# EAGLE library part LAN9118 (library IC)
SMSC LAN9118 High Performance Single-Chip 10/100 Non-PCI Etherntet Controller
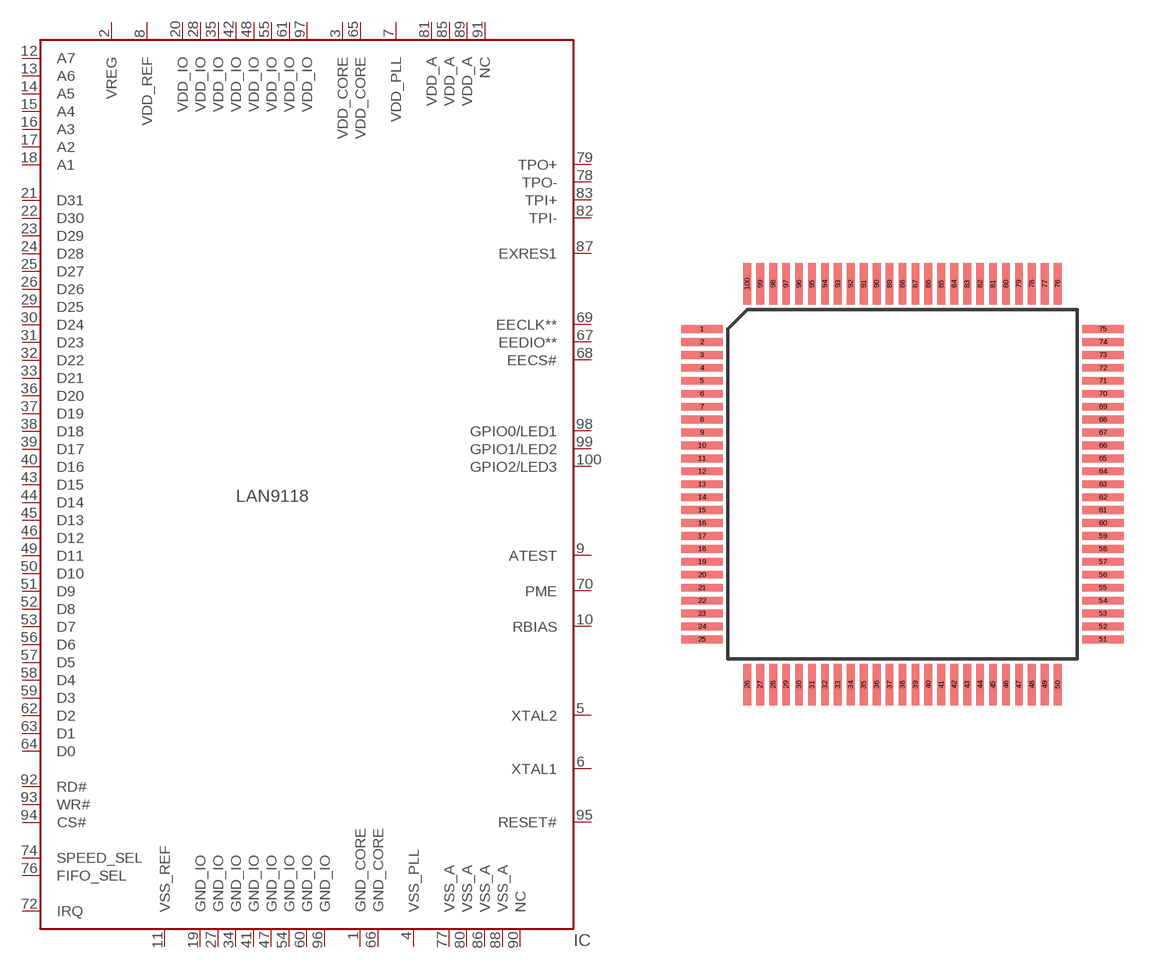
[diagram p94: symbol with the pads of TQFP100; footprint TQFP100]

Designator prefix IC

## LAN9118  [TQFP100]
1  GND_CORE  pwr
2  VREG  pwr
3  VDD_CORE  pwr
4  VSS_PLL  pwr
5  XTAL2
6  XTAL1
7  VDD_PLL  pwr
8  VDD_REF  pwr
9  ATEST
10  RBIAS
11  VSS_REF  pwr
12  A7
13  A6
14  A5
15  A4
16  A3
17  A2
18  A1
19  GND_IO  pwr
20  VDD_IO  pwr
21  D31
22  D30
23  D29
24  D28
25  D27
26  D26
27  GND_IO  pwr
28  VDD_IO  pwr
29  D25
30  D24
31  D23
32  D22
33  D21
34  GND_IO  pwr
35  VDD_IO  pwr
36  D20
37  D19
38  D18
39  D17
40  D16
41  GND_IO  pwr
42  VDD_IO  pwr
43  D15
44  D14
45  D13
46  D12
47  GND_IO  pwr
48  VDD_IO  pwr
49  D11
50  D10
51  D9
52  D8
53  D7
54  GND_IO  pwr
55  VDD_IO  pwr
56  D6
57  D5
58  D4
59  D3
60  GND_IO  pwr
61  VDD_IO  pwr
62  D2
63  D1
64  D0
65  VDD_CORE  pwr
66  GND_CORE  pwr
67  EEDIO**
68  EECS#
69  EECLK**
70  PME
72  IRQ
74  SPEED_SEL
76  FIFO_SEL
77  VSS_A  pwr
78  TPO-
79  TPO+
80  VSS_A  pwr
81  VDD_A  pwr
82  TPI-
83  TPI+
85  VDD_A  pwr
86  VSS_A  pwr
87  EXRES1
88  VSS_A  pwr
89  VDD_A  pwr
90  NC
91  NC
92  RD#
93  WR#
94  CS#
95  RESET#
96  GND_IO  pwr
97  VDD_IO  pwr
98  GPIO0/LED1
99  GPIO1/LED2
100  GPIO2/LED3

## Footprint TQFP100 (pad centres in mm)
TQFP 100 pin, 0.5mm pitch, 25 x 25 square
smd 1.6 x 0.3: 1 -7.75,6; 2 -7.75,5.5; 3 -7.75,5; 4 -7.75,4.5; 5 -7.75,4; 6 -7.75,3.5; 7 -7.75,3; 8 -7.75,2.5; 9 -7.75,2; 10 -7.75,1.5; 11 -7.75,1; 12 -7.75,0.5; 13 -7.75,0; 14 -7.75,-0.5; 15 -7.75,-1; 16 -7.75,-1.5; 17 -7.75,-2; 18 -7.75,-2.5; 19 -7.75,-3; 20 -7.75,-3.5; 21 -7.75,-4; 22 -7.75,-4.5; 23 -7.75,-5; 24 -7.75,-5.5; 25 -7.75,-6; 51 7.75,-6; 52 7.75,-5.5; 53 7.75,-5; 54 7.75,-4.5; 55 7.75,-4; 56 7.75,-3.5; 57 7.75,-3; 58 7.75,-2.5; 59 7.75,-2; 60 7.75,-1.5; 61 7.75,-1; 62 7.75,-0.5; 63 7.75,0; 64 7.75,0.5; 65 7.75,1; 66 7.75,1.5; 67 7.75,2; 68 7.75,2.5; 69 7.75,3; 70 7.75,3.5; 71 7.75,4; 72 7.75,4.5; 73 7.75,5; 74 7.75,5.5; 75 7.75,6
smd 0.3 x 1.6: 26 -6,-7.75; 27 -5.5,-7.75; 28 -5,-7.75; 29 -4.5,-7.75; 30 -4,-7.75; 31 -3.5,-7.75; 32 -3,-7.75; 33 -2.5,-7.75; 34 -2,-7.75; 35 -1.5,-7.75; 36 -1,-7.75; 37 -0.5,-7.75; 38 0,-7.75; 39 0.5,-7.75; 40 1,-7.75; 41 1.5,-7.75; 42 2,-7.75; 43 2.5,-7.75; 44 3,-7.75; 45 3.5,-7.75; 46 4,-7.75; 47 4.5,-7.75; 48 5,-7.75; 49 5.5,-7.75; 50 6,-7.75; 76 6,7.75; 77 5.5,7.75; 78 5,7.75; 79 4.5,7.75; 80 4,7.75; 81 3.5,7.75; 82 3,7.75; 83 2.5,7.75; 84 2,7.75; 85 1.5,7.75; 86 1,7.75; 87 0.5,7.75; 88 0,7.75; 89 -0.5,7.75; 90 -1,7.75; 91 -1.5,7.75; 92 -2,7.75; 93 -2.5,7.75; 94 -3,7.75; 95 -3.5,7.75; 96 -4,7.75; 97 -4.5,7.75; 98 -5,7.75; 99 -5.5,7.75; 100 -6,7.75